# Altium footprint library GS-101_v3.3.PcbLib: 40 footprints (part 1 of 3)
Each footprint in its own frame and in the unit in brackets; x right, y up, seen from the top. Pads: shape width x height; smd on the part's side, far side on the other; paste and mask are expansions set on the pad; w line width, h text height; cw(c..) or ccw(c..) is an arc to the next point about the centre after c.
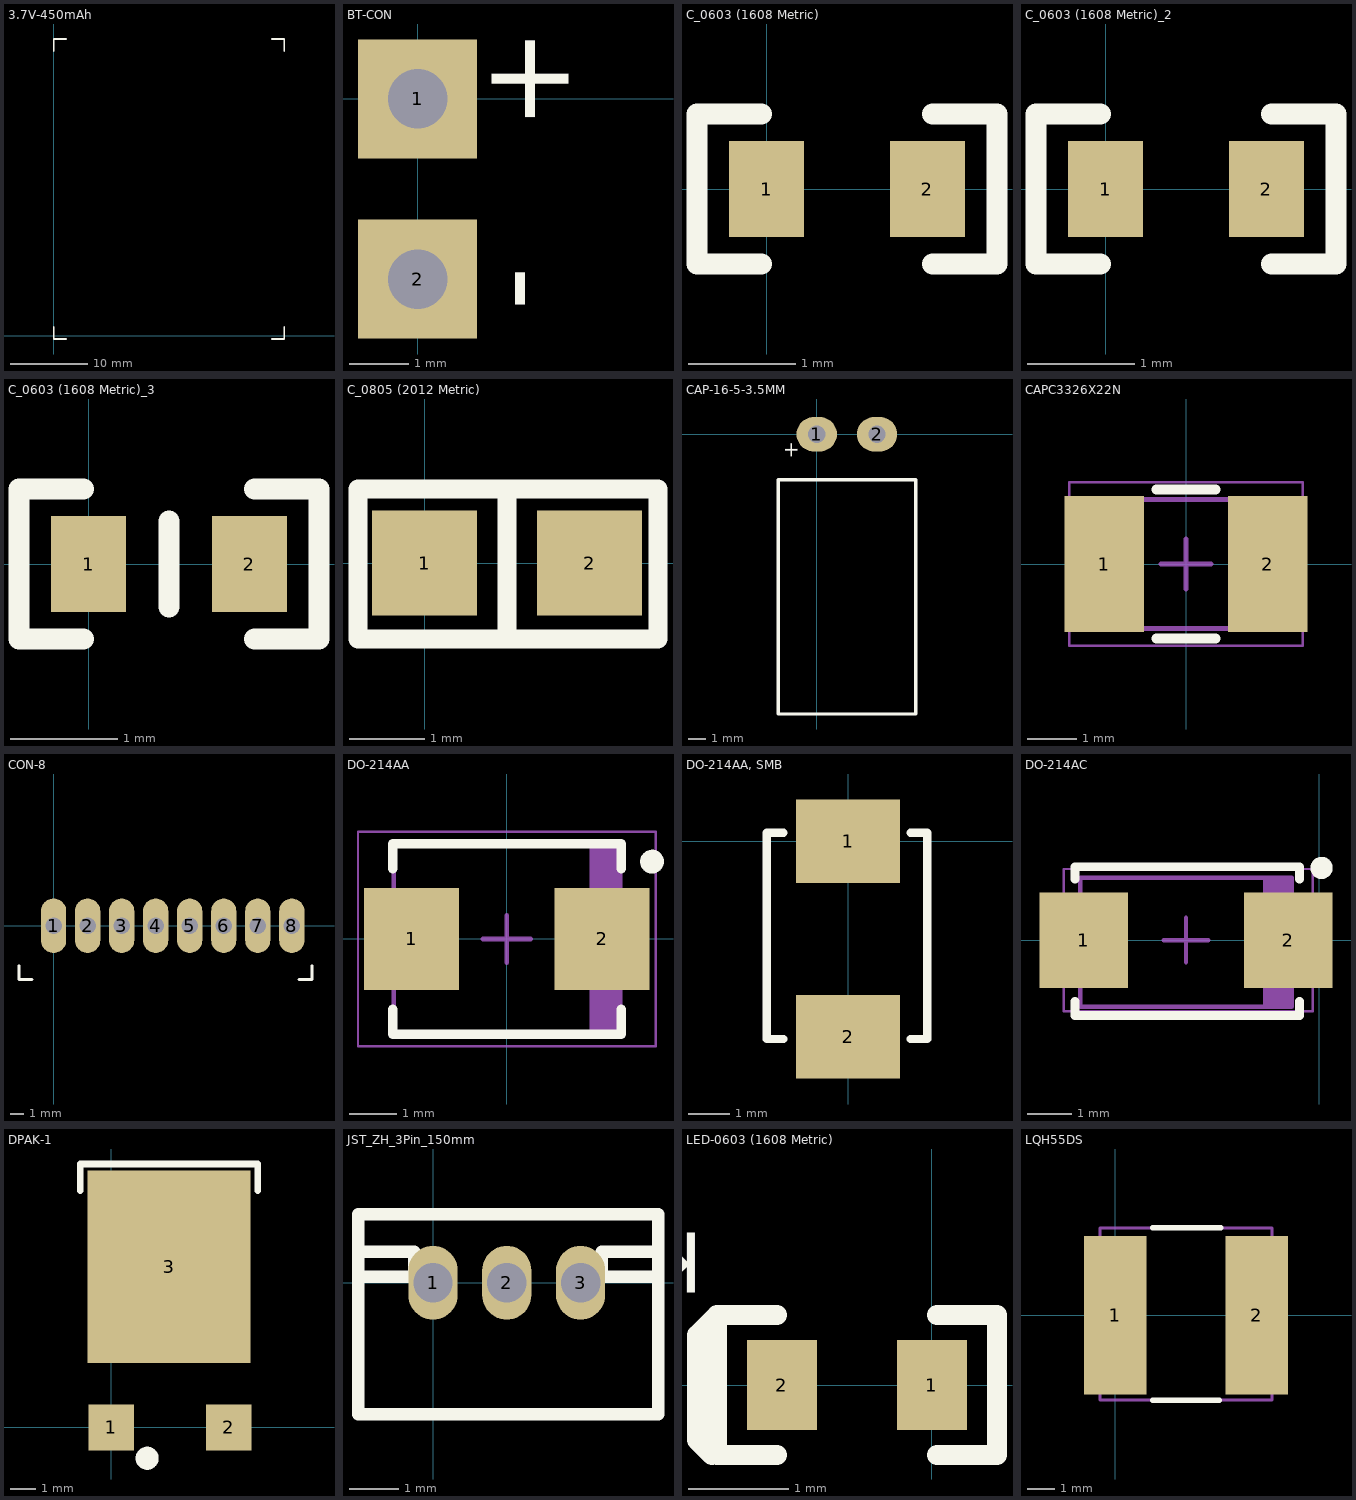
[diagram p0: the footprints below, top view; thin cyan lines are the x and y axes]

## 3.7V-450mAh [mm] "Li-Ion Battery"
height 7
Top Overlay:
  lines w0.2: 0,1.15 0,-0.45 1.6,-0.45 ; 0,37 0,38.6 1.6,38.6 ; 28.4,-0.45 30,-0.45 30,1.15 ; 28.4,38.6 30,38.6 30,37
3D body "3.7V-450mAh.STEP": height 5, standoff 0, extent 0.05,-0.2 30.05,38.4

## BT-CON [mm]
pads (2):
  rect 2x2 hole 1: 1(0,0) 2(0,-3.023)
Top Overlay:
  text "+" at 2.532,-0.523 h1.5
  text "-" at 2.286,-3.556 h1.5

## C_0603 (1608 Metric) [mm]
pads (2):
  rect 0.7x0.9 smd: 1(0,0) 2(1.5,0)
Top Overlay:
  lines w0.2: -0.05,-0.7 -0.65,-0.7 -0.65,0.7 -0.05,0.7 ; 1.55,-0.7 2.15,-0.7 2.15,0.7 1.55,0.7
3D body "User Library-0603 SMD Capacitor.step": height 0.3, standoff 0, extent -0.05,-0.4 1.55,0.4

## C_0603 (1608 Metric)_2 [mm]
pads (2):
  rect 0.7x0.9 smd: 1(0,0) 2(1.5,0)
Top Overlay:
  lines w0.2: -0.05,-0.7 -0.65,-0.7 -0.65,0.7 -0.05,0.7 ; 1.55,-0.7 2.15,-0.7 2.15,0.7 1.55,0.7
3D body "User Library-0603 SMD Capacitor.step": height 0.3, standoff 0, extent -0.05,-0.4 1.55,0.4

## C_0603 (1608 Metric)_3 [mm]
pads (2):
  rect 0.7x0.9 smd: 1(0,0) 2(1.5,0)
Top Overlay:
  lines w0.2: -0.05,-0.7 -0.65,-0.7 -0.65,0.7 -0.05,0.7 ; 0.75,-0.4 0.75,0.4 ; 1.55,-0.7 2.15,-0.7 2.15,0.7 1.55,0.7
3D body "User Library-0603 SMD Capacitor.step": height 0.3, standoff 0, extent -0.05,-0.4 1.55,0.4

## C_0805 (2012 Metric) [mm]
pads (2):
  rect 1.4x1.4 smd: 1(0,0) 2(2.2,0)
Top Overlay:
  lines w0.254: 1.1,-1.011 1.1,0.989 ; -0.889,-1.011 -0.889,-0.789 -0.889,0.989 0.635,0.989 1.587,0.989 3.111,0.989 3.111,-0.789 3.111,-1.011 1.587,-1.011 0.635,-1.011 -0.889,-1.011
3D body "SW3dPS-0805 SMD Capacitor.STEP": height 0.78, standoff 0, extent 0.084,-0.625 2.084,0.625

## CAP-16-5-3.5MM [mm]
pads (2):
  oval 2.35x2 hole 1: 1(0,0) 2(3.5,0)
Top Overlay:
  lines w0.2: 5.75,-2.65 -2.25,-2.65 -2.25,-16.263 5.76,-16.263 5.76,-2.65
  text "+" at -1.1,-0.4 h0.9
3D body "CAPAER_D080_L135_P035_W006X030_CAPAER_D080_L135_P035_W006X030-2.STEP": height 4.5, standoff -3.5, extent -2.25,-16.264 5.76,0.364

## CAPC3326X22N [mm] "Chip Capacitor, 2-Leads, Body 3.30x2.60mm, IPC Medium Density"
height 2.25
pads (2):
  rect 1.6x2.75 smd: 1(-1.65,0) 2(1.65,0)
Top Overlay:
  lines w0.2: -0.6,-1.5 0.6,-1.5 ; -0.6,1.5 0.6,1.5
Mechanical 13:
  lines w0.1: -1.65,-1.3 1.65,-1.3 1.65,1.3 -1.65,1.3 -1.65,-1.3
Mechanical 15:
  lines w0.05: -2.35,-1.65 2.35,-1.65 2.35,1.65 -2.35,1.65 -2.35,-1.65
  lines w0.1: -0.5,0 0.5,0 ; 0,-0.5 0,0.5
3D body "CAPC3326X22N.step": height 2.25, standoff 0, extent -1.65,-1.3 1.65,1.3

## CON-8 [mm]
height 1.2
pads (8):
  oval 1.85x4 hole 1.2: 1(0,0) 2(2.5,0) 3(5,0) 4(7.5,0) 5(10,0) 6(12.5,0) 7(15,0) 8(17.5,0)
Top Overlay:
  lines w0.2: -2.546,-2.95 -2.546,-3.95 -1.596,-3.95 ; 18.034,-3.95 18.984,-3.95 18.984,-2.95
Mechanical 15:
  text "ACC" at 5.55,2 h1.25
  text "P-" at 3.15,2 h1.25
  text "P+" at 0.7,2 h1.25
  text "RELAY1" at 8.25,2 h1.25
3D body "350220008.stp": height 2.95, standoff 0, extent -2.27,-3.836 18.73,2.064
3D body: height 0, standoff -2, extent -0.397,-0.399 0.4,0.399
3D body: height 0, standoff -2, extent 2.103,-0.399 2.9,0.399
3D body: height 0, standoff -2, extent 4.603,-0.399 5.4,0.399
3D body: height 0, standoff -2, extent 7.103,-0.399 7.9,0.399

## DO-214AA [mm] "DIODE SCHOTTKY 40V 2A DO214AA"
height 2.45
pads (2):
  rect 2x2.15 smd: 1(-2,0) 2(2,0)
Top Overlay:
  circle w0.25: c3.05,1.625 r0.125
  lines w0.2: -2.4,-1.475 -2.4,-2 2.4,-2 2.4,-1.475 ; -2.4,1.475 -2.4,2 2.4,2 2.4,1.475
Mechanical 13:
  rectangle: 1.736,-1.975 2.375,1.975
  lines w0.1: -2.375,-1.975 2.375,-1.975 2.375,1.975 -2.375,1.975 -2.375,-1.975
Mechanical 15:
  lines w0.05: -3.125,-2.25 3.125,-2.25 3.125,2.25 -3.125,2.25 -3.125,-2.25
  lines w0.1: -0.5,0 0.5,0 ; 0,-0.5 0,0.5
3D body "DO-214AA.step": height 2.45, standoff 0, extent -2.595,-1.975 2.595,1.975

## DO-214AA, SMB [mm] "SMBJ Transient Voltage Suppressor Diode Series"
pads (2):
  rect 2.5x2 smd: 1(0,0) 2(0,-4.7)
Top Overlay:
  lines w0.2: -1.55,-4.75 -1.95,-4.75 -1.95,0.2 -1.55,0.2 ; 1.5,-4.75 1.9,-4.75 1.9,0.2 1.5,0.2
3D body "User Library-DO-214AA_SMB.step": height 2.25, standoff 0, extent -1.85,-4.95 1.85,0.35

## DO-214AC [mm] "DIODE SCHOTTKY 40V 2A DO214AA"
height 2.45
pads (2):
  rect 2x2.15 smd: 1(-5.3,0) 2(-0.7,0)
Top Overlay:
  circle w0.25: c0.05,1.625 r0.125
  lines w0.2: -5.5,-1.375 -5.5,-1.7 -0.45,-1.7 -0.45,-1.375 ; -5.5,1.375 -5.5,1.65 -0.45,1.65 -0.45,1.375
Mechanical 13:
  rectangle: -1.264,-1.55 -0.625,1.45
  lines w0.1: -5.375,-1.5 -0.625,-1.5 -0.625,1.4 -5.375,1.4 -5.375,-1.5
Mechanical 15:
  lines w0.05: -5.75,-1.6 -0.15,-1.6 -0.15,1.6 -5.75,1.6 -5.75,-1.6
  lines w0.1: -3.5,0 -2.5,0 ; -3,-0.5 -3,0.5
3D body "User Library-DO-214AC(SMA).step": height 2.29, standoff 0, extent -5.693,-1.447 -0.207,1.347

## DPAK-1 [mil]
pads (3):
  rect 70x70 smd: 1(0,0) 2(180,0)
  rect 250x295.28 smd: 3(88.58,246.06)
Top Overlay:
  circle w17.72: c55.12,-47.24 r8.8
  lines w10: -47.24,362.2 -47.24,403.54 224.41,403.54 224.41,362.2
3D body "SW3dPS-DPAK-1.STEP": height 94.19, standoff -0.89, extent -40.95,-10.6 216.54,380.68

## JST_ZH_3Pin_150mm [mm] "JST ZH 3 Pin"
pads (3):
  oval 1x1.5 hole 0.8: 1(0,0) 2(1.5,0) 3(3,0)
Top Overlay:
  lines w0.254: -1.524,0.127 -0.381,0.127 -0.381,0.635 -1.524,0.635 ; 4.572,0.127 3.429,0.127 3.429,0.635 4.572,0.635 ; -1.524,-2.667 -1.524,1.397 4.572,1.397 4.572,-2.667 -1.524,-2.667

## LED-0603 (1608 Metric) [mm] "SMD LED 0603, P=2.2mm"
height 7
pads (2):
  rect 0.7x0.9 smd: 1(0,0) 2(-1.5,0)
Top Overlay:
  lines w0.2: -2.2,-0.7 -2.35,-0.55 -2.35,0.5 -2.15,0.7 ; -1.55,-0.7 -2.15,-0.7 -2.15,0.7 ; -1.55,0.7 -2.15,0.7 ; 0.05,-0.7 0.65,-0.7 0.65,0.7 0.05,0.7
  text "K" at -2.286,1.524 h0.6
3D body "User Library-LED_0603_R.STEP": height 0.6, standoff 0, extent -1.55,-0.4 0.05,0.4

## LQH55DS [mm] "FIXED IND 10UH 1.7A 93 MOHM SMD"
height 5
pads (2):
  rect 2.25x5.7 smd: 1(0,0) 2(5.1,0)
Top Overlay:
  lines w0.2: 1.35,-3.05 3.75,-3.05 ; 1.35,3.15 3.8,3.15
Mechanical 15:
  lines w0.1: -0.55,-3.05 5.65,-3.05 5.65,3.15 -0.55,3.15 -0.55,-3.05
3D body "IND_TAIYO_NRS6020.step": height 2.01, standoff 0, extent -0.549,-3.101 5.649,3.101